# Altium schematic symbol library Power and Battery Management.SchLib: 645 symbols (part 11 of 15)
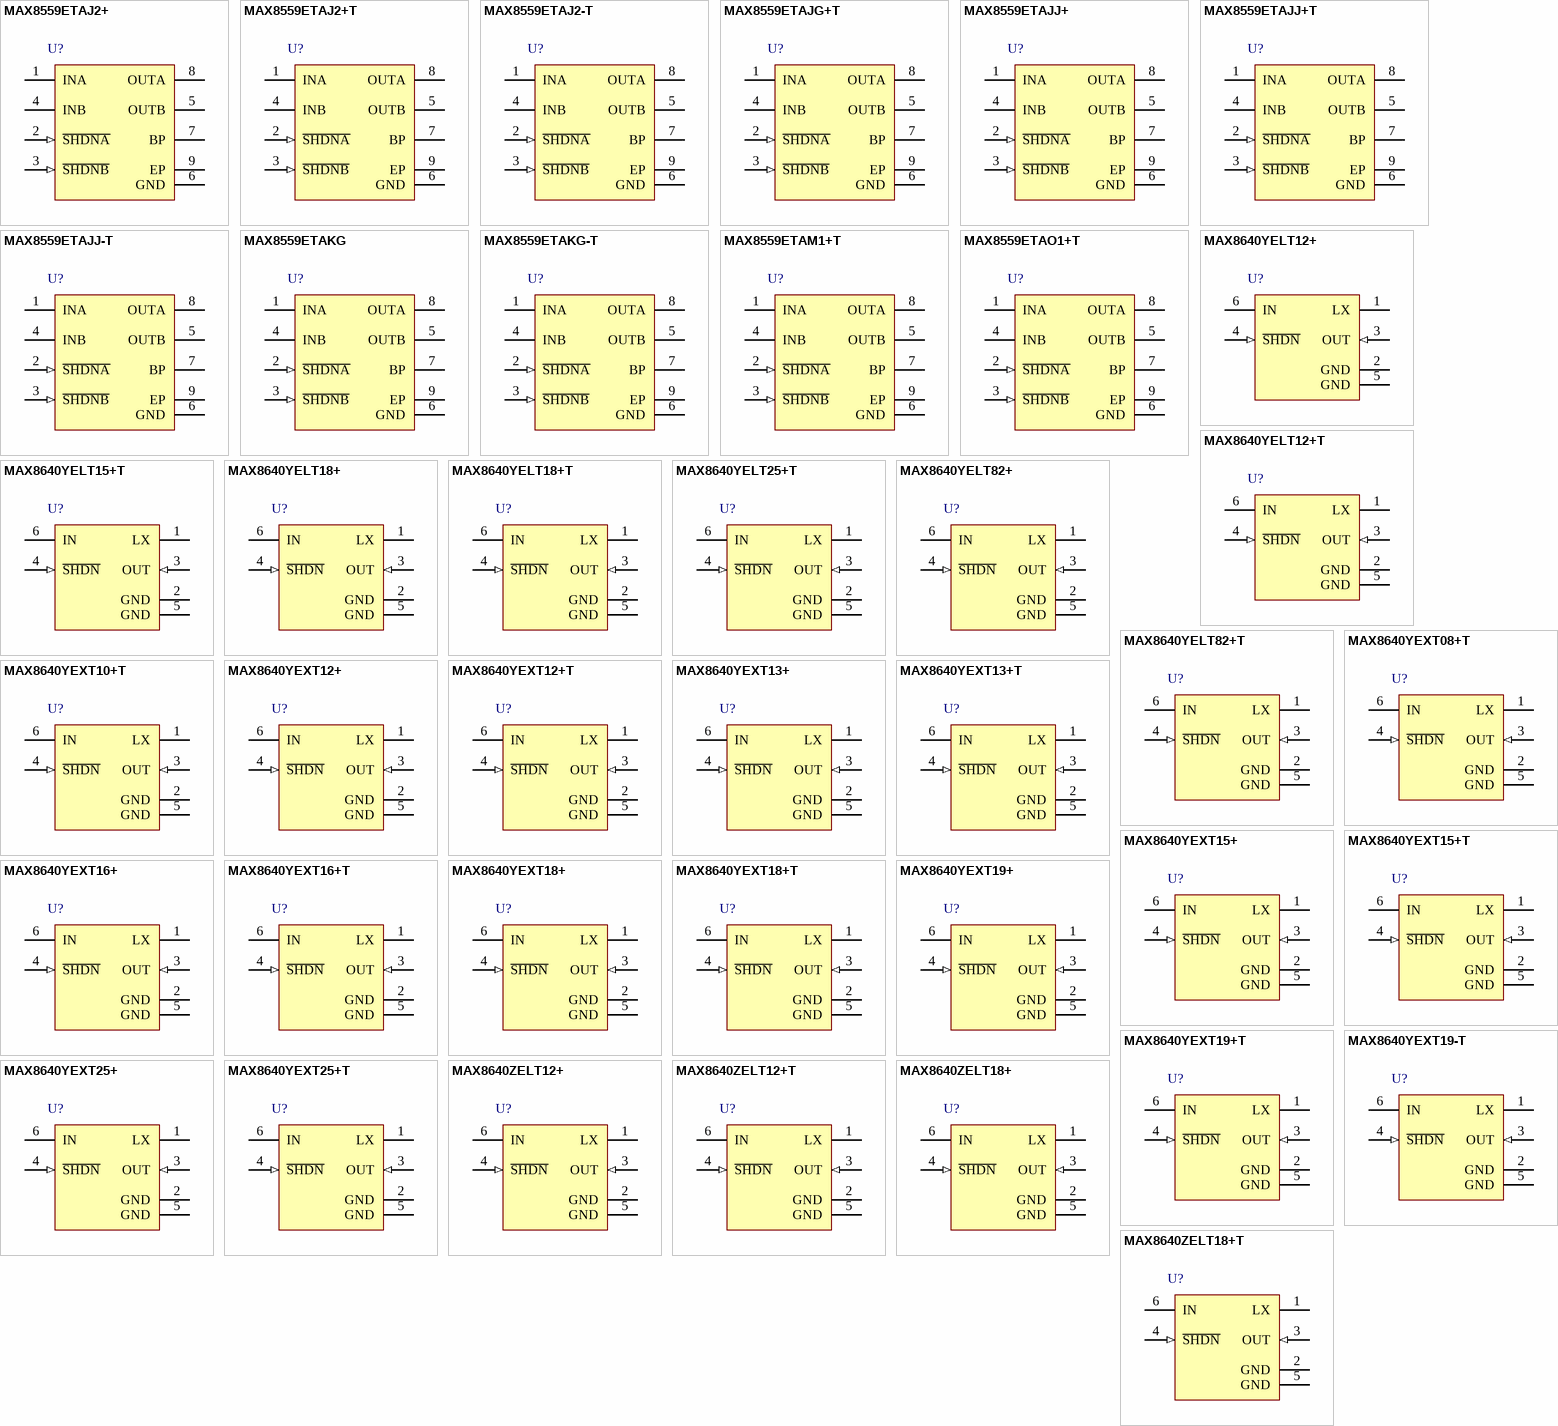
[diagram p29: symbols MAX8559ETAJ2+ to MAX8640ZELT18+T]

## MAX8559ETAJ2+T
designator U?
Dual, 300mA, Low-Noise Linear Regulator with Independent Shutdown, 8-Pin TDFN-EP, -40°C to +85°C, Pb-Free, Tape and Reel; DatasheetVersion: Rev 2, Aug-2005; PackageVersion: revJ, 2009; PackageReference: T833+2; PackageDescription: 8-Pin Plastic Very Very Thin Dual Flatpack No Leads, Exposed Pad, 3 x 3 x 0.8 mm Body, TDFN-EP, Pb-Free; Code_JEDEC: MO-229-WEEC; ComponentLink1Description: Manufacturer URL; ComponentLink1URL: http://www.maxim-ic.com; ComponentLink2Description: Datasheet; ComponentLink2URL: http://datasheets.maxim-ic.com/en/ds/MAX8559.pdf; ComponentLink3Description: Package Specification; ComponentLink3URL: http://pdfserv.maxim-ic.com/package_dwgs/21-0137.PDF
footprint T833+2 (SON, 8-Leads, Body 3x3 mm, Pitch 0.65mm, Thermal Pad 2.35x1.58mm, Maxim Recommended)
pins: 1 INA (power), 2 ~{SHDNA} (in), 3 ~{SHDNB} (in), 4 INB (power), 5 OUTB (power), 6 GND (power), 7 BP, 8 OUTA (power), 9 EP (power)

## MAX8559ETAJ2-T
designator U?
Dual, 300mA, Low-Noise Linear Regulator with Independent Shutdown, 8-Pin TDFN-EP, -40°C to +85°C, Tape and Reel; DatasheetVersion: Rev 2, Aug-2005; PackageVersion: revJ, 2009; PackageReference: T833-2; PackageDescription: 8-Pin Plastic Very Very Thin Dual Flatpack No Leads, Exposed Pad, 3 x 3 x 0.8 mm Body, TDFN-EP; Code_JEDEC: MO-229-WEEC; ComponentLink1Description: Manufacturer URL; ComponentLink1URL: http://www.maxim-ic.com; ComponentLink2Description: Datasheet; ComponentLink2URL: http://datasheets.maxim-ic.com/en/ds/MAX8559.pdf; ComponentLink3Description: Package Specification; ComponentLink3URL: http://pdfserv.maxim-ic.com/package_dwgs/21-0137.PDF
footprint T833-2 (SON, 8-Leads, Body 3x3 mm, Pitch 0.65mm, Thermal Pad 2.35x1.58mm, Maxim Recommended)
pins: 1 INA (power), 2 ~{SHDNA} (in), 3 ~{SHDNB} (in), 4 INB (power), 5 OUTB (power), 6 GND (power), 7 BP, 8 OUTA (power), 9 EP (power)

## MAX8559ETAJG+T
designator U?
Dual, 300mA, Low-Noise Linear Regulator with Independent Shutdown, 8-Pin TDFN-EP, -40°C to +85°C, Pb-Free, Tape and Reel; DatasheetVersion: Rev 2, Aug-2005; PackageVersion: revJ, 2009; PackageReference: T833+2; PackageDescription: 8-Pin Plastic Very Very Thin Dual Flatpack No Leads, Exposed Pad, 3 x 3 x 0.8 mm Body, TDFN-EP, Pb-Free; Code_JEDEC: MO-229-WEEC; ComponentLink1Description: Manufacturer URL; ComponentLink1URL: http://www.maxim-ic.com; ComponentLink2Description: Datasheet; ComponentLink2URL: http://datasheets.maxim-ic.com/en/ds/MAX8559.pdf; ComponentLink3Description: Package Specification; ComponentLink3URL: http://pdfserv.maxim-ic.com/package_dwgs/21-0137.PDF
footprint T833+2 (SON, 8-Leads, Body 3x3 mm, Pitch 0.65mm, Thermal Pad 2.35x1.58mm, Maxim Recommended)
pins: 1 INA (power), 2 ~{SHDNA} (in), 3 ~{SHDNB} (in), 4 INB (power), 5 OUTB (power), 6 GND (power), 7 BP, 8 OUTA (power), 9 EP (power)

## MAX8559ETAJJ+
designator U?
Dual, 300mA, Low-Noise Linear Regulator with Independent Shutdown, 8-Pin TDFN-EP, -40°C to +85°C, Pb-Free; DatasheetVersion: Rev 2, Aug-2005; PackageVersion: revJ, 2009; PackageReference: T833+2; PackageDescription: 8-Pin Plastic Very Very Thin Dual Flatpack No Leads, Exposed Pad, 3 x 3 x 0.8 mm Body, TDFN-EP, Pb-Free; Code_JEDEC: MO-229-WEEC; ComponentLink1Description: Manufacturer URL; ComponentLink1URL: http://www.maxim-ic.com; ComponentLink2Description: Datasheet; ComponentLink2URL: http://datasheets.maxim-ic.com/en/ds/MAX8559.pdf; ComponentLink3Description: Package Specification; ComponentLink3URL: http://pdfserv.maxim-ic.com/package_dwgs/21-0137.PDF
footprint T833+2 (SON, 8-Leads, Body 3x3 mm, Pitch 0.65mm, Thermal Pad 2.35x1.58mm, Maxim Recommended)
pins: 1 INA (power), 2 ~{SHDNA} (in), 3 ~{SHDNB} (in), 4 INB (power), 5 OUTB (power), 6 GND (power), 7 BP, 8 OUTA (power), 9 EP (power)

## MAX8559ETAJJ+T
designator U?
Dual, 300mA, Low-Noise Linear Regulator with Independent Shutdown, 8-Pin TDFN-EP, -40°C to +85°C, Pb-Free, Tape and Reel; DatasheetVersion: Rev 2, Aug-2005; PackageVersion: revJ, 2009; PackageReference: T833+2; PackageDescription: 8-Pin Plastic Very Very Thin Dual Flatpack No Leads, Exposed Pad, 3 x 3 x 0.8 mm Body, TDFN-EP, Pb-Free; Code_JEDEC: MO-229-WEEC; ComponentLink1Description: Manufacturer URL; ComponentLink1URL: http://www.maxim-ic.com; ComponentLink2Description: Datasheet; ComponentLink2URL: http://datasheets.maxim-ic.com/en/ds/MAX8559.pdf; ComponentLink3Description: Package Specification; ComponentLink3URL: http://pdfserv.maxim-ic.com/package_dwgs/21-0137.PDF
footprint T833+2 (SON, 8-Leads, Body 3x3 mm, Pitch 0.65mm, Thermal Pad 2.35x1.58mm, Maxim Recommended)
pins: 1 INA (power), 2 ~{SHDNA} (in), 3 ~{SHDNB} (in), 4 INB (power), 5 OUTB (power), 6 GND (power), 7 BP, 8 OUTA (power), 9 EP (power)

## MAX8559ETAJJ-T
designator U?
Dual, 300mA, Low-Noise Linear Regulator with Independent Shutdown, 8-Pin TDFN-EP, -40°C to +85°C, Tape and Reel; DatasheetVersion: Rev 2, Aug-2005; PackageVersion: revJ, 2009; PackageReference: T833-2; PackageDescription: 8-Pin Plastic Very Very Thin Dual Flatpack No Leads, Exposed Pad, 3 x 3 x 0.8 mm Body, TDFN-EP; Code_JEDEC: MO-229-WEEC; ComponentLink1Description: Manufacturer URL; ComponentLink1URL: http://www.maxim-ic.com; ComponentLink2Description: Datasheet; ComponentLink2URL: http://datasheets.maxim-ic.com/en/ds/MAX8559.pdf; ComponentLink3Description: Package Specification; ComponentLink3URL: http://pdfserv.maxim-ic.com/package_dwgs/21-0137.PDF
footprint T833-2 (SON, 8-Leads, Body 3x3 mm, Pitch 0.65mm, Thermal Pad 2.35x1.58mm, Maxim Recommended)
pins: 1 INA (power), 2 ~{SHDNA} (in), 3 ~{SHDNB} (in), 4 INB (power), 5 OUTB (power), 6 GND (power), 7 BP, 8 OUTA (power), 9 EP (power)

## MAX8559ETAKG
designator U?
Dual, 300mA, Low-Noise Linear Regulator with Independent Shutdown, 8-Pin TDFN-EP, -40°C to +85°C; DatasheetVersion: Rev 2, Aug-2005; PackageVersion: revJ, 2009; PackageReference: T833-2; PackageDescription: 8-Pin Plastic Very Very Thin Dual Flatpack No Leads, Exposed Pad, 3 x 3 x 0.8 mm Body, TDFN-EP; Code_JEDEC: MO-229-WEEC; ComponentLink1Description: Manufacturer URL; ComponentLink1URL: http://www.maxim-ic.com; ComponentLink2Description: Datasheet; ComponentLink2URL: http://datasheets.maxim-ic.com/en/ds/MAX8559.pdf; ComponentLink3Description: Package Specification; ComponentLink3URL: http://pdfserv.maxim-ic.com/package_dwgs/21-0137.PDF
footprint T833-2 (SON, 8-Leads, Body 3x3 mm, Pitch 0.65mm, Thermal Pad 2.35x1.58mm, Maxim Recommended)
pins: 1 INA (power), 2 ~{SHDNA} (in), 3 ~{SHDNB} (in), 4 INB (power), 5 OUTB (power), 6 GND (power), 7 BP, 8 OUTA (power), 9 EP (power)

## MAX8559ETAKG-T
designator U?
Dual, 300mA, Low-Noise Linear Regulator with Independent Shutdown, 8-Pin TDFN-EP, -40°C to +85°C, Tape and Reel; DatasheetVersion: Rev 2, Aug-2005; PackageVersion: revJ, 2009; PackageReference: T833-2; PackageDescription: 8-Pin Plastic Very Very Thin Dual Flatpack No Leads, Exposed Pad, 3 x 3 x 0.8 mm Body, TDFN-EP; Code_JEDEC: MO-229-WEEC; ComponentLink1Description: Manufacturer URL; ComponentLink1URL: http://www.maxim-ic.com; ComponentLink2Description: Datasheet; ComponentLink2URL: http://datasheets.maxim-ic.com/en/ds/MAX8559.pdf; ComponentLink3Description: Package Specification; ComponentLink3URL: http://pdfserv.maxim-ic.com/package_dwgs/21-0137.PDF
footprint T833-2 (SON, 8-Leads, Body 3x3 mm, Pitch 0.65mm, Thermal Pad 2.35x1.58mm, Maxim Recommended)
pins: 1 INA (power), 2 ~{SHDNA} (in), 3 ~{SHDNB} (in), 4 INB (power), 5 OUTB (power), 6 GND (power), 7 BP, 8 OUTA (power), 9 EP (power)

## MAX8559ETAM1+T
designator U?
Dual, 300mA, Low-Noise Linear Regulator with Independent Shutdown, 8-Pin TDFN-EP, -40°C to +85°C, Pb-Free, Tape and Reel; DatasheetVersion: Rev 2, Aug-2005; PackageVersion: revJ, 2009; PackageReference: T833+2; PackageDescription: 8-Pin Plastic Very Very Thin Dual Flatpack No Leads, Exposed Pad, 3 x 3 x 0.8 mm Body, TDFN-EP, Pb-Free; Code_JEDEC: MO-229-WEEC; ComponentLink1Description: Manufacturer URL; ComponentLink1URL: http://www.maxim-ic.com; ComponentLink2Description: Datasheet; ComponentLink2URL: http://datasheets.maxim-ic.com/en/ds/MAX8559.pdf; ComponentLink3Description: Package Specification; ComponentLink3URL: http://pdfserv.maxim-ic.com/package_dwgs/21-0137.PDF
footprint T833+2 (SON, 8-Leads, Body 3x3 mm, Pitch 0.65mm, Thermal Pad 2.35x1.58mm, Maxim Recommended)
pins: 1 INA (power), 2 ~{SHDNA} (in), 3 ~{SHDNB} (in), 4 INB (power), 5 OUTB (power), 6 GND (power), 7 BP, 8 OUTA (power), 9 EP (power)

## MAX8559ETAO1+T
designator U?
Dual, 300mA, Low-Noise Linear Regulator with Independent Shutdown, 8-Pin TDFN-EP, -40°C to +85°C, Pb-Free, Tape and Reel; DatasheetVersion: Rev 2, Aug-2005; PackageVersion: revJ, 2009; PackageReference: T833+2; PackageDescription: 8-Pin Plastic Very Very Thin Dual Flatpack No Leads, Exposed Pad, 3 x 3 x 0.8 mm Body, TDFN-EP, Pb-Free; Code_JEDEC: MO-229-WEEC; ComponentLink1Description: Manufacturer URL; ComponentLink1URL: http://www.maxim-ic.com; ComponentLink2Description: Datasheet; ComponentLink2URL: http://datasheets.maxim-ic.com/en/ds/MAX8559.pdf; ComponentLink3Description: Package Specification; ComponentLink3URL: http://pdfserv.maxim-ic.com/package_dwgs/21-0137.PDF
footprint T833+2 (SON, 8-Leads, Body 3x3 mm, Pitch 0.65mm, Thermal Pad 2.35x1.58mm, Maxim Recommended)
pins: 1 INA (power), 2 ~{SHDNA} (in), 3 ~{SHDNB} (in), 4 INB (power), 5 OUTB (power), 6 GND (power), 7 BP, 8 OUTA (power), 9 EP (power)

## MAX8640YELT12+
designator U?
Tiny 500mA, 4MHz/2MHz Synchronous Step-Down DC-DC Converter, 1.2V output, 2.2uH L1, 6-Pin DFN, -40°C to +85°C, Pb-Free; DatasheetVersion: Rev 4, Feb-2009; PackageVersion: revG, 2012; PackageReference: L611+1; PackageDescription: 6-Pin Micro Dual Flatpack No Lead, 1.5 x 1 x 0.8 mm Body, 0.5 mm Pitch, uDFN; ComponentLink1Description: Manufacturer URL; ComponentLink1URL: http://www.maxim-ic.com; ComponentLink2Description: Datasheet; ComponentLink2URL: http://datasheets.maxim-ic.com/en/ds/MAX8640Y-MAX8640Z.pdf; ComponentLink3Description: Package Specification; ComponentLink3URL: http://pdfserv.maxim-ic.com/package_dwgs/21-0147.PDF
footprint L611+1_N (SON, 6-Leads, Body 1.5x1mm, Pitch 0.5mm, IPC Medium Density)
footprint L611+1_L (SON, 6-Leads, Body 1.5x1mm, Pitch 0.5mm, IPC High Density)
footprint L611+1_M (SON, 6-Leads, Body 1.5x1mm, Pitch 0.5mm, IPC Low Density)
pins: 1 LX, 2 GND (power), 3 OUT (in), 4 ~{SHDN} (in), 5 GND (power), 6 IN (power)

## MAX8640YELT12+T
designator U?
Tiny 500mA, 4MHz/2MHz Synchronous Step-Down DC-DC Converter, 1.2V output, 2.2uH L1, 6-Pin DFN, -40°C to +85°C, Pb-Free, Tape and Reel; DatasheetVersion: Rev 4, Feb-2009; PackageVersion: revG, 2012; PackageReference: L611+1; PackageDescription: 6-Pin Micro Dual Flatpack No Lead, 1.5 x 1 x 0.8 mm Body, 0.5 mm Pitch, uDFN; ComponentLink1Description: Manufacturer URL; ComponentLink1URL: http://www.maxim-ic.com; ComponentLink2Description: Datasheet; ComponentLink2URL: http://datasheets.maxim-ic.com/en/ds/MAX8640Y-MAX8640Z.pdf; ComponentLink3Description: Package Specification; ComponentLink3URL: http://pdfserv.maxim-ic.com/package_dwgs/21-0147.PDF
footprint L611+1_N (SON, 6-Leads, Body 1.5x1mm, Pitch 0.5mm, IPC Medium Density)
footprint L611+1_L (SON, 6-Leads, Body 1.5x1mm, Pitch 0.5mm, IPC High Density)
footprint L611+1_M (SON, 6-Leads, Body 1.5x1mm, Pitch 0.5mm, IPC Low Density)
pins: 1 LX, 2 GND (power), 3 OUT (in), 4 ~{SHDN} (in), 5 GND (power), 6 IN (power)

## MAX8640YELT15+T
designator U?
Tiny 500mA, 4MHz/2MHz Synchronous Step-Down DC-DC Converter, 1.5V output, 2.2uH L1, 6-Pin DFN, -40°C to +85°C, Pb-Free, Tape and Reel; DatasheetVersion: Rev 4, Feb-2009; PackageVersion: revG, 2012; PackageReference: L611+1; PackageDescription: 6-Pin Micro Dual Flatpack No Lead, 1.5 x 1 x 0.8 mm Body, 0.5 mm Pitch, uDFN; ComponentLink1Description: Manufacturer URL; ComponentLink1URL: http://www.maxim-ic.com; ComponentLink2Description: Datasheet; ComponentLink2URL: http://datasheets.maxim-ic.com/en/ds/MAX8640Y-MAX8640Z.pdf; ComponentLink3Description: Package Specification; ComponentLink3URL: http://pdfserv.maxim-ic.com/package_dwgs/21-0147.PDF
footprint L611+1_N (SON, 6-Leads, Body 1.5x1mm, Pitch 0.5mm, IPC Medium Density)
footprint L611+1_L (SON, 6-Leads, Body 1.5x1mm, Pitch 0.5mm, IPC High Density)
footprint L611+1_M (SON, 6-Leads, Body 1.5x1mm, Pitch 0.5mm, IPC Low Density)
pins: 1 LX, 2 GND (power), 3 OUT (in), 4 ~{SHDN} (in), 5 GND (power), 6 IN (power)

## MAX8640YELT18+
designator U?
Tiny 500mA, 4MHz/2MHz Synchronous Step-Down DC-DC Converter, 1.8V output, 2.2uH L1, 6-Pin DFN, -40°C to +85°C, Pb-Free; DatasheetVersion: Rev 4, Feb-2009; PackageVersion: revG, 2012; PackageReference: L611+1; PackageDescription: 6-Pin Micro Dual Flatpack No Lead, 1.5 x 1 x 0.8 mm Body, 0.5 mm Pitch, uDFN; ComponentLink1Description: Manufacturer URL; ComponentLink1URL: http://www.maxim-ic.com; ComponentLink2Description: Datasheet; ComponentLink2URL: http://datasheets.maxim-ic.com/en/ds/MAX8640Y-MAX8640Z.pdf; ComponentLink3Description: Package Specification; ComponentLink3URL: http://pdfserv.maxim-ic.com/package_dwgs/21-0147.PDF
footprint L611+1_N (SON, 6-Leads, Body 1.5x1mm, Pitch 0.5mm, IPC Medium Density)
footprint L611+1_L (SON, 6-Leads, Body 1.5x1mm, Pitch 0.5mm, IPC High Density)
footprint L611+1_M (SON, 6-Leads, Body 1.5x1mm, Pitch 0.5mm, IPC Low Density)
pins: 1 LX, 2 GND (power), 3 OUT (in), 4 ~{SHDN} (in), 5 GND (power), 6 IN (power)

## MAX8640YELT18+T
designator U?
Tiny 500mA, 4MHz/2MHz Synchronous Step-Down DC-DC Converter, 1.8V output, 2.2uH L1, 6-Pin DFN, -40°C to +85°C, Pb-Free, Tape and Reel; DatasheetVersion: Rev 4, Feb-2009; PackageVersion: revG, 2012; PackageReference: L611+1; PackageDescription: 6-Pin Micro Dual Flatpack No Lead, 1.5 x 1 x 0.8 mm Body, 0.5 mm Pitch, uDFN; ComponentLink1Description: Manufacturer URL; ComponentLink1URL: http://www.maxim-ic.com; ComponentLink2Description: Datasheet; ComponentLink2URL: http://datasheets.maxim-ic.com/en/ds/MAX8640Y-MAX8640Z.pdf; ComponentLink3Description: Package Specification; ComponentLink3URL: http://pdfserv.maxim-ic.com/package_dwgs/21-0147.PDF
footprint L611+1_N (SON, 6-Leads, Body 1.5x1mm, Pitch 0.5mm, IPC Medium Density)
footprint L611+1_L (SON, 6-Leads, Body 1.5x1mm, Pitch 0.5mm, IPC High Density)
footprint L611+1_M (SON, 6-Leads, Body 1.5x1mm, Pitch 0.5mm, IPC Low Density)
pins: 1 LX, 2 GND (power), 3 OUT (in), 4 ~{SHDN} (in), 5 GND (power), 6 IN (power)

## MAX8640YELT25+T
designator U?
Tiny 500mA, 4MHz/2MHz Synchronous Step-Down DC-DC Converter, 2.5V output, 2.2uH L1, 6-Pin DFN, -40°C to +85°C, Pb-Free, Tape and Reel; DatasheetVersion: Rev 4, Feb-2009; PackageVersion: revG, 2012; PackageReference: L611+1; PackageDescription: 6-Pin Micro Dual Flatpack No Lead, 1.5 x 1 x 0.8 mm Body, 0.5 mm Pitch, uDFN; ComponentLink1Description: Manufacturer URL; ComponentLink1URL: http://www.maxim-ic.com; ComponentLink2Description: Datasheet; ComponentLink2URL: http://datasheets.maxim-ic.com/en/ds/MAX8640Y-MAX8640Z.pdf; ComponentLink3Description: Package Specification; ComponentLink3URL: http://pdfserv.maxim-ic.com/package_dwgs/21-0147.PDF
footprint L611+1_N (SON, 6-Leads, Body 1.5x1mm, Pitch 0.5mm, IPC Medium Density)
footprint L611+1_L (SON, 6-Leads, Body 1.5x1mm, Pitch 0.5mm, IPC High Density)
footprint L611+1_M (SON, 6-Leads, Body 1.5x1mm, Pitch 0.5mm, IPC Low Density)
pins: 1 LX, 2 GND (power), 3 OUT (in), 4 ~{SHDN} (in), 5 GND (power), 6 IN (power)

## MAX8640YELT82+
designator U?
Tiny 500mA, 4MHz/2MHz Synchronous Step-Down DC-DC Converter, 2.85V output, 2.2uH L1, 6-Pin DFN, -40°C to +85°C, Pb-Free; DatasheetVersion: Rev 4, Feb-2009; PackageVersion: revG, 2012; PackageReference: L611+1; PackageDescription: 6-Pin Micro Dual Flatpack No Lead, 1.5 x 1 x 0.8 mm Body, 0.5 mm Pitch, uDFN; ComponentLink1Description: Manufacturer URL; ComponentLink1URL: http://www.maxim-ic.com; ComponentLink2Description: Datasheet; ComponentLink2URL: http://datasheets.maxim-ic.com/en/ds/MAX8640Y-MAX8640Z.pdf; ComponentLink3Description: Package Specification; ComponentLink3URL: http://pdfserv.maxim-ic.com/package_dwgs/21-0147.PDF
footprint L611+1_N (SON, 6-Leads, Body 1.5x1mm, Pitch 0.5mm, IPC Medium Density)
footprint L611+1_L (SON, 6-Leads, Body 1.5x1mm, Pitch 0.5mm, IPC High Density)
footprint L611+1_M (SON, 6-Leads, Body 1.5x1mm, Pitch 0.5mm, IPC Low Density)
pins: 1 LX, 2 GND (power), 3 OUT (in), 4 ~{SHDN} (in), 5 GND (power), 6 IN (power)

## MAX8640YELT82+T
designator U?
Tiny 500mA, 4MHz/2MHz Synchronous Step-Down DC-DC Converter, 2.85V output, 2.2uH L1, 6-Pin DFN, -40°C to +85°C, Pb-Free, Tape and Reel; DatasheetVersion: Rev 4, Feb-2009; PackageVersion: revG, 2012; PackageReference: L611+1; PackageDescription: 6-Pin Micro Dual Flatpack No Lead, 1.5 x 1 x 0.8 mm Body, 0.5 mm Pitch, uDFN; ComponentLink1Description: Manufacturer URL; ComponentLink1URL: http://www.maxim-ic.com; ComponentLink2Description: Datasheet; ComponentLink2URL: http://datasheets.maxim-ic.com/en/ds/MAX8640Y-MAX8640Z.pdf; ComponentLink3Description: Package Specification; ComponentLink3URL: http://pdfserv.maxim-ic.com/package_dwgs/21-0147.PDF
footprint L611+1_N (SON, 6-Leads, Body 1.5x1mm, Pitch 0.5mm, IPC Medium Density)
footprint L611+1_L (SON, 6-Leads, Body 1.5x1mm, Pitch 0.5mm, IPC High Density)
footprint L611+1_M (SON, 6-Leads, Body 1.5x1mm, Pitch 0.5mm, IPC Low Density)
pins: 1 LX, 2 GND (power), 3 OUT (in), 4 ~{SHDN} (in), 5 GND (power), 6 IN (power)

## MAX8640YEXT08+T
designator U?
Tiny 500mA, 4MHz/2MHz Synchronous Step-Down DC-DC Converter, 0.8V output, 2.2uH L1, 6-Pin SC70, -40°C to +85°C, Pb-Free, Tape and Reel; DatasheetVersion: Rev 4, Feb-2009; PackageVersion: revH, 2010; PackageReference: X6SN+1; PackageDescription: 6-Pin SL70 Package 2 x 1.3 mm Body ,0.65 mm Pitch, Pb-Free; Code_JEDEC: MO-203; ComponentLink1Description: Manufacturer URL; ComponentLink1URL: http://www.maxim-ic.com; ComponentLink2Description: Datasheet; ComponentLink2URL: http://datasheets.maxim-ic.com/en/ds/MAX8640Y-MAX8640Z.pdf; ComponentLink3Description: Package Specification; ComponentLink3URL: http://pdfserv.maxim-ic.com/package_dwgs/21-0077.PDF
footprint X6SN+1_N (SOT23, 6-Leads, Body 2x1.3mm, Pitch 0.65mm, Lead Span 2.2mm, IPC Medium Density)
footprint X6SN+1_L (SOT23, 6-Leads, Body 2x1.3mm, Pitch 0.65mm, Lead Span 2.2mm, IPC High Density)
footprint X6SN+1_M (SOT23, 6-Leads, Body 2x1.3mm, Pitch 0.65mm, Lead Span 2.2mm, IPC Low Density)
pins: 1 LX, 2 GND (power), 3 OUT (in), 4 ~{SHDN} (in), 5 GND (power), 6 IN (power)

## MAX8640YEXT10+T
designator U?
Tiny 500mA, 4MHz/2MHz Synchronous Step-Down DC-DC Converter, 1V output, 2.2uH L1, 6-Pin SC70, -40°C to +85°C, Pb-Free, Tape and Reel; DatasheetVersion: Rev 4, Feb-2009; PackageVersion: revH, 2010; PackageReference: X6SN+1; PackageDescription: 6-Pin SL70 Package 2 x 1.3 mm Body ,0.65 mm Pitch, Pb-Free; Code_JEDEC: MO-203; ComponentLink1Description: Manufacturer URL; ComponentLink1URL: http://www.maxim-ic.com; ComponentLink2Description: Datasheet; ComponentLink2URL: http://datasheets.maxim-ic.com/en/ds/MAX8640Y-MAX8640Z.pdf; ComponentLink3Description: Package Specification; ComponentLink3URL: http://pdfserv.maxim-ic.com/package_dwgs/21-0077.PDF
footprint X6SN+1_N (SOT23, 6-Leads, Body 2x1.3mm, Pitch 0.65mm, Lead Span 2.2mm, IPC Medium Density)
footprint X6SN+1_L (SOT23, 6-Leads, Body 2x1.3mm, Pitch 0.65mm, Lead Span 2.2mm, IPC High Density)
footprint X6SN+1_M (SOT23, 6-Leads, Body 2x1.3mm, Pitch 0.65mm, Lead Span 2.2mm, IPC Low Density)
pins: 1 LX, 2 GND (power), 3 OUT (in), 4 ~{SHDN} (in), 5 GND (power), 6 IN (power)

## MAX8640YEXT12+
designator U?
Tiny 500mA, 4MHz/2MHz Synchronous Step-Down DC-DC Converter, 1.2V output, 2.2uH L1, 6-Pin SC70, -40°C to +85°C, Pb-Free; DatasheetVersion: Rev 4, Feb-2009; PackageVersion: revH, 2010; PackageReference: X6SN+1; PackageDescription: 6-Pin SL70 Package 2 x 1.3 mm Body ,0.65 mm Pitch, Pb-Free; Code_JEDEC: MO-203; ComponentLink1Description: Manufacturer URL; ComponentLink1URL: http://www.maxim-ic.com; ComponentLink2Description: Datasheet; ComponentLink2URL: http://datasheets.maxim-ic.com/en/ds/MAX8640Y-MAX8640Z.pdf; ComponentLink3Description: Package Specification; ComponentLink3URL: http://pdfserv.maxim-ic.com/package_dwgs/21-0077.PDF
footprint X6SN+1_N (SOT23, 6-Leads, Body 2x1.3mm, Pitch 0.65mm, Lead Span 2.2mm, IPC Medium Density)
footprint X6SN+1_L (SOT23, 6-Leads, Body 2x1.3mm, Pitch 0.65mm, Lead Span 2.2mm, IPC High Density)
footprint X6SN+1_M (SOT23, 6-Leads, Body 2x1.3mm, Pitch 0.65mm, Lead Span 2.2mm, IPC Low Density)
pins: 1 LX, 2 GND (power), 3 OUT (in), 4 ~{SHDN} (in), 5 GND (power), 6 IN (power)

## MAX8640YEXT12+T
designator U?
Tiny 500mA, 4MHz/2MHz Synchronous Step-Down DC-DC Converter, 1.2V output, 2.2uH L1, 6-Pin SC70, -40°C to +85°C, Pb-Free, Tape and Reel; DatasheetVersion: Rev 4, Feb-2009; PackageVersion: revH, 2010; PackageReference: X6SN+1; PackageDescription: 6-Pin SL70 Package 2 x 1.3 mm Body ,0.65 mm Pitch, Pb-Free; Code_JEDEC: MO-203; ComponentLink1Description: Manufacturer URL; ComponentLink1URL: http://www.maxim-ic.com; ComponentLink2Description: Datasheet; ComponentLink2URL: http://datasheets.maxim-ic.com/en/ds/MAX8640Y-MAX8640Z.pdf; ComponentLink3Description: Package Specification; ComponentLink3URL: http://pdfserv.maxim-ic.com/package_dwgs/21-0077.PDF
footprint X6SN+1_N (SOT23, 6-Leads, Body 2x1.3mm, Pitch 0.65mm, Lead Span 2.2mm, IPC Medium Density)
footprint X6SN+1_L (SOT23, 6-Leads, Body 2x1.3mm, Pitch 0.65mm, Lead Span 2.2mm, IPC High Density)
footprint X6SN+1_M (SOT23, 6-Leads, Body 2x1.3mm, Pitch 0.65mm, Lead Span 2.2mm, IPC Low Density)
pins: 1 LX, 2 GND (power), 3 OUT (in), 4 ~{SHDN} (in), 5 GND (power), 6 IN (power)

## MAX8640YEXT13+
designator U?
Tiny 500mA, 4MHz/2MHz Synchronous Step-Down DC-DC Converter, 1.3V output, 2.2uH L1, 6-Pin SC70, -40°C to +85°C, Pb-Free; DatasheetVersion: Rev 4, Feb-2009; PackageVersion: revH, 2010; PackageReference: X6SN+1; PackageDescription: 6-Pin SL70 Package 2 x 1.3 mm Body ,0.65 mm Pitch, Pb-Free; Code_JEDEC: MO-203; ComponentLink1Description: Manufacturer URL; ComponentLink1URL: http://www.maxim-ic.com; ComponentLink2Description: Datasheet; ComponentLink2URL: http://datasheets.maxim-ic.com/en/ds/MAX8640Y-MAX8640Z.pdf; ComponentLink3Description: Package Specification; ComponentLink3URL: http://pdfserv.maxim-ic.com/package_dwgs/21-0077.PDF
footprint X6SN+1_N (SOT23, 6-Leads, Body 2x1.3mm, Pitch 0.65mm, Lead Span 2.2mm, IPC Medium Density)
footprint X6SN+1_L (SOT23, 6-Leads, Body 2x1.3mm, Pitch 0.65mm, Lead Span 2.2mm, IPC High Density)
footprint X6SN+1_M (SOT23, 6-Leads, Body 2x1.3mm, Pitch 0.65mm, Lead Span 2.2mm, IPC Low Density)
pins: 1 LX, 2 GND (power), 3 OUT (in), 4 ~{SHDN} (in), 5 GND (power), 6 IN (power)

## MAX8640YEXT13+T
designator U?
Tiny 500mA, 4MHz/2MHz Synchronous Step-Down DC-DC Converter, 1.3V output, 2.2uH L1, 6-Pin SC70, -40°C to +85°C, Pb-Free, Tape and Reel; DatasheetVersion: Rev 4, Feb-2009; PackageVersion: revH, 2010; PackageReference: X6SN+1; PackageDescription: 6-Pin SL70 Package 2 x 1.3 mm Body ,0.65 mm Pitch, Pb-Free; Code_JEDEC: MO-203; ComponentLink1Description: Manufacturer URL; ComponentLink1URL: http://www.maxim-ic.com; ComponentLink2Description: Datasheet; ComponentLink2URL: http://datasheets.maxim-ic.com/en/ds/MAX8640Y-MAX8640Z.pdf; ComponentLink3Description: Package Specification; ComponentLink3URL: http://pdfserv.maxim-ic.com/package_dwgs/21-0077.PDF
footprint X6SN+1_N (SOT23, 6-Leads, Body 2x1.3mm, Pitch 0.65mm, Lead Span 2.2mm, IPC Medium Density)
footprint X6SN+1_L (SOT23, 6-Leads, Body 2x1.3mm, Pitch 0.65mm, Lead Span 2.2mm, IPC High Density)
footprint X6SN+1_M (SOT23, 6-Leads, Body 2x1.3mm, Pitch 0.65mm, Lead Span 2.2mm, IPC Low Density)
pins: 1 LX, 2 GND (power), 3 OUT (in), 4 ~{SHDN} (in), 5 GND (power), 6 IN (power)

## MAX8640YEXT15+
designator U?
Tiny 500mA, 4MHz/2MHz Synchronous Step-Down DC-DC Converter, 1.5V output, 2.2uH L1, 6-Pin SC70, -40°C to +85°C, Pb-Free; DatasheetVersion: Rev 4, Feb-2009; PackageVersion: revH, 2010; PackageReference: X6SN+1; PackageDescription: 6-Pin SL70 Package 2 x 1.3 mm Body ,0.65 mm Pitch, Pb-Free; Code_JEDEC: MO-203; ComponentLink1Description: Manufacturer URL; ComponentLink1URL: http://www.maxim-ic.com; ComponentLink2Description: Datasheet; ComponentLink2URL: http://datasheets.maxim-ic.com/en/ds/MAX8640Y-MAX8640Z.pdf; ComponentLink3Description: Package Specification; ComponentLink3URL: http://pdfserv.maxim-ic.com/package_dwgs/21-0077.PDF
footprint X6SN+1_N (SOT23, 6-Leads, Body 2x1.3mm, Pitch 0.65mm, Lead Span 2.2mm, IPC Medium Density)
footprint X6SN+1_L (SOT23, 6-Leads, Body 2x1.3mm, Pitch 0.65mm, Lead Span 2.2mm, IPC High Density)
footprint X6SN+1_M (SOT23, 6-Leads, Body 2x1.3mm, Pitch 0.65mm, Lead Span 2.2mm, IPC Low Density)
pins: 1 LX, 2 GND (power), 3 OUT (in), 4 ~{SHDN} (in), 5 GND (power), 6 IN (power)

## MAX8640YEXT15+T
designator U?
Tiny 500mA, 4MHz/2MHz Synchronous Step-Down DC-DC Converter, 1.5V output, 2.2uH L1, 6-Pin SC70, -40°C to +85°C, Pb-Free, Tape and Reel; DatasheetVersion: Rev 4, Feb-2009; PackageVersion: revH, 2010; PackageReference: X6SN+1; PackageDescription: 6-Pin SL70 Package 2 x 1.3 mm Body ,0.65 mm Pitch, Pb-Free; Code_JEDEC: MO-203; ComponentLink1Description: Manufacturer URL; ComponentLink1URL: http://www.maxim-ic.com; ComponentLink2Description: Datasheet; ComponentLink2URL: http://datasheets.maxim-ic.com/en/ds/MAX8640Y-MAX8640Z.pdf; ComponentLink3Description: Package Specification; ComponentLink3URL: http://pdfserv.maxim-ic.com/package_dwgs/21-0077.PDF
footprint X6SN+1_N (SOT23, 6-Leads, Body 2x1.3mm, Pitch 0.65mm, Lead Span 2.2mm, IPC Medium Density)
footprint X6SN+1_L (SOT23, 6-Leads, Body 2x1.3mm, Pitch 0.65mm, Lead Span 2.2mm, IPC High Density)
footprint X6SN+1_M (SOT23, 6-Leads, Body 2x1.3mm, Pitch 0.65mm, Lead Span 2.2mm, IPC Low Density)
pins: 1 LX, 2 GND (power), 3 OUT (in), 4 ~{SHDN} (in), 5 GND (power), 6 IN (power)

## MAX8640YEXT16+
designator U?
Tiny 500mA, 4MHz/2MHz Synchronous Step-Down DC-DC Converter, 1.6V output, 2.2uH L1, 6-Pin SC70, -40°C to +85°C, Pb-Free; DatasheetVersion: Rev 4, Feb-2009; PackageVersion: revH, 2010; PackageReference: X6SN+1; PackageDescription: 6-Pin SL70 Package 2 x 1.3 mm Body ,0.65 mm Pitch, Pb-Free; Code_JEDEC: MO-203; ComponentLink1Description: Manufacturer URL; ComponentLink1URL: http://www.maxim-ic.com; ComponentLink2Description: Datasheet; ComponentLink2URL: http://datasheets.maxim-ic.com/en/ds/MAX8640Y-MAX8640Z.pdf; ComponentLink3Description: Package Specification; ComponentLink3URL: http://pdfserv.maxim-ic.com/package_dwgs/21-0077.PDF
footprint X6SN+1_N (SOT23, 6-Leads, Body 2x1.3mm, Pitch 0.65mm, Lead Span 2.2mm, IPC Medium Density)
footprint X6SN+1_L (SOT23, 6-Leads, Body 2x1.3mm, Pitch 0.65mm, Lead Span 2.2mm, IPC High Density)
footprint X6SN+1_M (SOT23, 6-Leads, Body 2x1.3mm, Pitch 0.65mm, Lead Span 2.2mm, IPC Low Density)
pins: 1 LX, 2 GND (power), 3 OUT (in), 4 ~{SHDN} (in), 5 GND (power), 6 IN (power)

## MAX8640YEXT16+T
designator U?
Tiny 500mA, 4MHz/2MHz Synchronous Step-Down DC-DC Converter, 1.6V output, 2.2uH L1, 6-Pin SC70, -40°C to +85°C, Pb-Free, Tape and Reel; DatasheetVersion: Rev 4, Feb-2009; PackageVersion: revH, 2010; PackageReference: X6SN+1; PackageDescription: 6-Pin SL70 Package 2 x 1.3 mm Body ,0.65 mm Pitch, Pb-Free; Code_JEDEC: MO-203; ComponentLink1Description: Manufacturer URL; ComponentLink1URL: http://www.maxim-ic.com; ComponentLink2Description: Datasheet; ComponentLink2URL: http://datasheets.maxim-ic.com/en/ds/MAX8640Y-MAX8640Z.pdf; ComponentLink3Description: Package Specification; ComponentLink3URL: http://pdfserv.maxim-ic.com/package_dwgs/21-0077.PDF
footprint X6SN+1_N (SOT23, 6-Leads, Body 2x1.3mm, Pitch 0.65mm, Lead Span 2.2mm, IPC Medium Density)
footprint X6SN+1_L (SOT23, 6-Leads, Body 2x1.3mm, Pitch 0.65mm, Lead Span 2.2mm, IPC High Density)
footprint X6SN+1_M (SOT23, 6-Leads, Body 2x1.3mm, Pitch 0.65mm, Lead Span 2.2mm, IPC Low Density)
pins: 1 LX, 2 GND (power), 3 OUT (in), 4 ~{SHDN} (in), 5 GND (power), 6 IN (power)

## MAX8640YEXT18+
designator U?
Tiny 500mA, 4MHz/2MHz Synchronous Step-Down DC-DC Converter, 1.8V output, 2.2uH L1, 6-Pin SC70, -40°C to +85°C, Pb-Free; DatasheetVersion: Rev 4, Feb-2009; PackageVersion: revH, 2010; PackageReference: X6SN+1; PackageDescription: 6-Pin SL70 Package 2 x 1.3 mm Body ,0.65 mm Pitch, Pb-Free; Code_JEDEC: MO-203; ComponentLink1Description: Manufacturer URL; ComponentLink1URL: http://www.maxim-ic.com; ComponentLink2Description: Datasheet; ComponentLink2URL: http://datasheets.maxim-ic.com/en/ds/MAX8640Y-MAX8640Z.pdf; ComponentLink3Description: Package Specification; ComponentLink3URL: http://pdfserv.maxim-ic.com/package_dwgs/21-0077.PDF
footprint X6SN+1_N (SOT23, 6-Leads, Body 2x1.3mm, Pitch 0.65mm, Lead Span 2.2mm, IPC Medium Density)
footprint X6SN+1_L (SOT23, 6-Leads, Body 2x1.3mm, Pitch 0.65mm, Lead Span 2.2mm, IPC High Density)
footprint X6SN+1_M (SOT23, 6-Leads, Body 2x1.3mm, Pitch 0.65mm, Lead Span 2.2mm, IPC Low Density)
pins: 1 LX, 2 GND (power), 3 OUT (in), 4 ~{SHDN} (in), 5 GND (power), 6 IN (power)

## MAX8640YEXT18+T
designator U?
Tiny 500mA, 4MHz/2MHz Synchronous Step-Down DC-DC Converter, 1.8V output, 2.2uH L1, 6-Pin SC70, -40°C to +85°C, Pb-Free, Tape and Reel; DatasheetVersion: Rev 4, Feb-2009; PackageVersion: revH, 2010; PackageReference: X6SN+1; PackageDescription: 6-Pin SL70 Package 2 x 1.3 mm Body ,0.65 mm Pitch, Pb-Free; Code_JEDEC: MO-203; ComponentLink1Description: Manufacturer URL; ComponentLink1URL: http://www.maxim-ic.com; ComponentLink2Description: Datasheet; ComponentLink2URL: http://datasheets.maxim-ic.com/en/ds/MAX8640Y-MAX8640Z.pdf; ComponentLink3Description: Package Specification; ComponentLink3URL: http://pdfserv.maxim-ic.com/package_dwgs/21-0077.PDF
footprint X6SN+1_N (SOT23, 6-Leads, Body 2x1.3mm, Pitch 0.65mm, Lead Span 2.2mm, IPC Medium Density)
footprint X6SN+1_L (SOT23, 6-Leads, Body 2x1.3mm, Pitch 0.65mm, Lead Span 2.2mm, IPC High Density)
footprint X6SN+1_M (SOT23, 6-Leads, Body 2x1.3mm, Pitch 0.65mm, Lead Span 2.2mm, IPC Low Density)
pins: 1 LX, 2 GND (power), 3 OUT (in), 4 ~{SHDN} (in), 5 GND (power), 6 IN (power)

## MAX8640YEXT19+
designator U?
Tiny 500mA, 4MHz/2MHz Synchronous Step-Down DC-DC Converter, 1.9V output, 2.2uH L1, 6-Pin SC70, -40°C to +85°C, Pb-Free; DatasheetVersion: Rev 4, Feb-2009; PackageVersion: revH, 2010; PackageReference: X6SN+1; PackageDescription: 6-Pin SL70 Package 2 x 1.3 mm Body ,0.65 mm Pitch, Pb-Free; Code_JEDEC: MO-203; ComponentLink1Description: Manufacturer URL; ComponentLink1URL: http://www.maxim-ic.com; ComponentLink2Description: Datasheet; ComponentLink2URL: http://datasheets.maxim-ic.com/en/ds/MAX8640Y-MAX8640Z.pdf; ComponentLink3Description: Package Specification; ComponentLink3URL: http://pdfserv.maxim-ic.com/package_dwgs/21-0077.PDF
footprint X6SN+1_N (SOT23, 6-Leads, Body 2x1.3mm, Pitch 0.65mm, Lead Span 2.2mm, IPC Medium Density)
footprint X6SN+1_L (SOT23, 6-Leads, Body 2x1.3mm, Pitch 0.65mm, Lead Span 2.2mm, IPC High Density)
footprint X6SN+1_M (SOT23, 6-Leads, Body 2x1.3mm, Pitch 0.65mm, Lead Span 2.2mm, IPC Low Density)
pins: 1 LX, 2 GND (power), 3 OUT (in), 4 ~{SHDN} (in), 5 GND (power), 6 IN (power)

## MAX8640YEXT19+T
designator U?
Tiny 500mA, 4MHz/2MHz Synchronous Step-Down DC-DC Converter, 1.9V output, 2.2uH L1, 6-Pin SC70, -40°C to +85°C, Pb-Free, Tape and Reel; DatasheetVersion: Rev 4, Feb-2009; PackageVersion: revH, 2010; PackageReference: X6SN+1; PackageDescription: 6-Pin SL70 Package 2 x 1.3 mm Body ,0.65 mm Pitch, Pb-Free; Code_JEDEC: MO-203; ComponentLink1Description: Manufacturer URL; ComponentLink1URL: http://www.maxim-ic.com; ComponentLink2Description: Datasheet; ComponentLink2URL: http://datasheets.maxim-ic.com/en/ds/MAX8640Y-MAX8640Z.pdf; ComponentLink3Description: Package Specification; ComponentLink3URL: http://pdfserv.maxim-ic.com/package_dwgs/21-0077.PDF
footprint X6SN+1_N (SOT23, 6-Leads, Body 2x1.3mm, Pitch 0.65mm, Lead Span 2.2mm, IPC Medium Density)
footprint X6SN+1_L (SOT23, 6-Leads, Body 2x1.3mm, Pitch 0.65mm, Lead Span 2.2mm, IPC High Density)
footprint X6SN+1_M (SOT23, 6-Leads, Body 2x1.3mm, Pitch 0.65mm, Lead Span 2.2mm, IPC Low Density)
pins: 1 LX, 2 GND (power), 3 OUT (in), 4 ~{SHDN} (in), 5 GND (power), 6 IN (power)

## MAX8640YEXT19-T
designator U?
Tiny 500mA, 4MHz/2MHz Synchronous Step-Down DC-DC Converter, 1.9V output, 2.2uH L1, 6-Pin SC70, -40°C to +85°C, Tape and Reel; DatasheetVersion: Rev 4, Feb-2009; PackageVersion: revH, 2010; PackageReference: X6SN-1; PackageDescription: 6-Pin SL70 Package 2 x 1.3 mm Body ,0.65 mm Pitch; Code_JEDEC: MO-203; ComponentLink1Description: Manufacturer URL; ComponentLink1URL: http://www.maxim-ic.com; ComponentLink2Description: Datasheet; ComponentLink2URL: http://datasheets.maxim-ic.com/en/ds/MAX8640Y-MAX8640Z.pdf; ComponentLink3Description: Package Specification; ComponentLink3URL: http://pdfserv.maxim-ic.com/package_dwgs/21-0077.PDF
footprint X6SN-1_N (SOT23, 6-Leads, Body 2x1.3mm, Pitch 0.65mm, Lead Span 2.2mm, IPC Medium Density)
footprint X6SN-1_L (SOT23, 6-Leads, Body 2x1.3mm, Pitch 0.65mm, Lead Span 2.2mm, IPC High Density)
footprint X6SN-1_M (SOT23, 6-Leads, Body 2x1.3mm, Pitch 0.65mm, Lead Span 2.2mm, IPC Low Density)
pins: 1 LX, 2 GND (power), 3 OUT (in), 4 ~{SHDN} (in), 5 GND (power), 6 IN (power)

## MAX8640YEXT25+
designator U?
Tiny 500mA, 4MHz/2MHz Synchronous Step-Down DC-DC Converter, 2.5V output, 2.2uH L1, 6-Pin SC70, -40°C to +85°C, Pb-Free; DatasheetVersion: Rev 4, Feb-2009; PackageVersion: revH, 2010; PackageReference: X6SN+1; PackageDescription: 6-Pin SL70 Package 2 x 1.3 mm Body ,0.65 mm Pitch, Pb-Free; Code_JEDEC: MO-203; ComponentLink1Description: Manufacturer URL; ComponentLink1URL: http://www.maxim-ic.com; ComponentLink2Description: Datasheet; ComponentLink2URL: http://datasheets.maxim-ic.com/en/ds/MAX8640Y-MAX8640Z.pdf; ComponentLink3Description: Package Specification; ComponentLink3URL: http://pdfserv.maxim-ic.com/package_dwgs/21-0077.PDF
footprint X6SN+1_N (SOT23, 6-Leads, Body 2x1.3mm, Pitch 0.65mm, Lead Span 2.2mm, IPC Medium Density)
footprint X6SN+1_L (SOT23, 6-Leads, Body 2x1.3mm, Pitch 0.65mm, Lead Span 2.2mm, IPC High Density)
footprint X6SN+1_M (SOT23, 6-Leads, Body 2x1.3mm, Pitch 0.65mm, Lead Span 2.2mm, IPC Low Density)
pins: 1 LX, 2 GND (power), 3 OUT (in), 4 ~{SHDN} (in), 5 GND (power), 6 IN (power)

## MAX8640YEXT25+T
designator U?
Tiny 500mA, 4MHz/2MHz Synchronous Step-Down DC-DC Converter, 2.5V output, 2.2uH L1, 6-Pin SC70, -40°C to +85°C, Pb-Free, Tape and Reel; DatasheetVersion: Rev 4, Feb-2009; PackageVersion: revH, 2010; PackageReference: X6SN+1; PackageDescription: 6-Pin SL70 Package 2 x 1.3 mm Body ,0.65 mm Pitch, Pb-Free; Code_JEDEC: MO-203; ComponentLink1Description: Manufacturer URL; ComponentLink1URL: http://www.maxim-ic.com; ComponentLink2Description: Datasheet; ComponentLink2URL: http://datasheets.maxim-ic.com/en/ds/MAX8640Y-MAX8640Z.pdf; ComponentLink3Description: Package Specification; ComponentLink3URL: http://pdfserv.maxim-ic.com/package_dwgs/21-0077.PDF
footprint X6SN+1_N (SOT23, 6-Leads, Body 2x1.3mm, Pitch 0.65mm, Lead Span 2.2mm, IPC Medium Density)
footprint X6SN+1_L (SOT23, 6-Leads, Body 2x1.3mm, Pitch 0.65mm, Lead Span 2.2mm, IPC High Density)
footprint X6SN+1_M (SOT23, 6-Leads, Body 2x1.3mm, Pitch 0.65mm, Lead Span 2.2mm, IPC Low Density)
pins: 1 LX, 2 GND (power), 3 OUT (in), 4 ~{SHDN} (in), 5 GND (power), 6 IN (power)

## MAX8640ZELT12+
designator U?
Tiny 500mA, 4MHz/2MHz Synchronous Step-Down DC-DC Converter, 1.2V output, 1uH L1, 6-Pin DFN, -40°C to +85°C, Pb-Free; DatasheetVersion: Rev 4, Feb-2009; PackageVersion: revG, 2012; PackageReference: L611+1; PackageDescription: 6-Pin Micro Dual Flatpack No Lead, 1.5 x 1 x 0.8 mm Body, 0.5 mm Pitch, uDFN; ComponentLink1Description: Manufacturer URL; ComponentLink1URL: http://www.maxim-ic.com; ComponentLink2Description: Datasheet; ComponentLink2URL: http://datasheets.maxim-ic.com/en/ds/MAX8640Y-MAX8640Z.pdf; ComponentLink3Description: Package Specification; ComponentLink3URL: http://pdfserv.maxim-ic.com/package_dwgs/21-0147.PDF
footprint L611+1_N (SON, 6-Leads, Body 1.5x1mm, Pitch 0.5mm, IPC Medium Density)
footprint L611+1_L (SON, 6-Leads, Body 1.5x1mm, Pitch 0.5mm, IPC High Density)
footprint L611+1_M (SON, 6-Leads, Body 1.5x1mm, Pitch 0.5mm, IPC Low Density)
pins: 1 LX, 2 GND (power), 3 OUT (in), 4 ~{SHDN} (in), 5 GND (power), 6 IN (power)

## MAX8640ZELT12+T
designator U?
Tiny 500mA, 4MHz/2MHz Synchronous Step-Down DC-DC Converter, 1.2V output, 1uH L1, 6-Pin DFN, -40°C to +85°C, Pb-Free, Tape and Reel; DatasheetVersion: Rev 4, Feb-2009; PackageVersion: revG, 2012; PackageReference: L611+1; PackageDescription: 6-Pin Micro Dual Flatpack No Lead, 1.5 x 1 x 0.8 mm Body, 0.5 mm Pitch, uDFN; ComponentLink1Description: Manufacturer URL; ComponentLink1URL: http://www.maxim-ic.com; ComponentLink2Description: Datasheet; ComponentLink2URL: http://datasheets.maxim-ic.com/en/ds/MAX8640Y-MAX8640Z.pdf; ComponentLink3Description: Package Specification; ComponentLink3URL: http://pdfserv.maxim-ic.com/package_dwgs/21-0147.PDF
footprint L611+1_N (SON, 6-Leads, Body 1.5x1mm, Pitch 0.5mm, IPC Medium Density)
footprint L611+1_L (SON, 6-Leads, Body 1.5x1mm, Pitch 0.5mm, IPC High Density)
footprint L611+1_M (SON, 6-Leads, Body 1.5x1mm, Pitch 0.5mm, IPC Low Density)
pins: 1 LX, 2 GND (power), 3 OUT (in), 4 ~{SHDN} (in), 5 GND (power), 6 IN (power)

## MAX8640ZELT18+
designator U?
Tiny 500mA, 4MHz/2MHz Synchronous Step-Down DC-DC Converter, 1.8V output, 1uH L1, 6-Pin DFN, -40°C to +85°C, Pb-Free; DatasheetVersion: Rev 4, Feb-2009; PackageVersion: revG, 2012; PackageReference: L611+1; PackageDescription: 6-Pin Micro Dual Flatpack No Lead, 1.5 x 1 x 0.8 mm Body, 0.5 mm Pitch, uDFN; ComponentLink1Description: Manufacturer URL; ComponentLink1URL: http://www.maxim-ic.com; ComponentLink2Description: Datasheet; ComponentLink2URL: http://datasheets.maxim-ic.com/en/ds/MAX8640Y-MAX8640Z.pdf; ComponentLink3Description: Package Specification; ComponentLink3URL: http://pdfserv.maxim-ic.com/package_dwgs/21-0147.PDF
footprint L611+1_N (SON, 6-Leads, Body 1.5x1mm, Pitch 0.5mm, IPC Medium Density)
footprint L611+1_L (SON, 6-Leads, Body 1.5x1mm, Pitch 0.5mm, IPC High Density)
footprint L611+1_M (SON, 6-Leads, Body 1.5x1mm, Pitch 0.5mm, IPC Low Density)
pins: 1 LX, 2 GND (power), 3 OUT (in), 4 ~{SHDN} (in), 5 GND (power), 6 IN (power)

## MAX8640ZELT18+T
designator U?
Tiny 500mA, 4MHz/2MHz Synchronous Step-Down DC-DC Converter, 1.8V output, 1uH L1, 6-Pin DFN, -40°C to +85°C, Pb-Free, Tape and Reel; DatasheetVersion: Rev 4, Feb-2009; PackageVersion: revG, 2012; PackageReference: L611+1; PackageDescription: 6-Pin Micro Dual Flatpack No Lead, 1.5 x 1 x 0.8 mm Body, 0.5 mm Pitch, uDFN; ComponentLink1Description: Manufacturer URL; ComponentLink1URL: http://www.maxim-ic.com; ComponentLink2Description: Datasheet; ComponentLink2URL: http://datasheets.maxim-ic.com/en/ds/MAX8640Y-MAX8640Z.pdf; ComponentLink3Description: Package Specification; ComponentLink3URL: http://pdfserv.maxim-ic.com/package_dwgs/21-0147.PDF
footprint L611+1_N (SON, 6-Leads, Body 1.5x1mm, Pitch 0.5mm, IPC Medium Density)
footprint L611+1_L (SON, 6-Leads, Body 1.5x1mm, Pitch 0.5mm, IPC High Density)
footprint L611+1_M (SON, 6-Leads, Body 1.5x1mm, Pitch 0.5mm, IPC Low Density)
pins: 1 LX, 2 GND (power), 3 OUT (in), 4 ~{SHDN} (in), 5 GND (power), 6 IN (power)

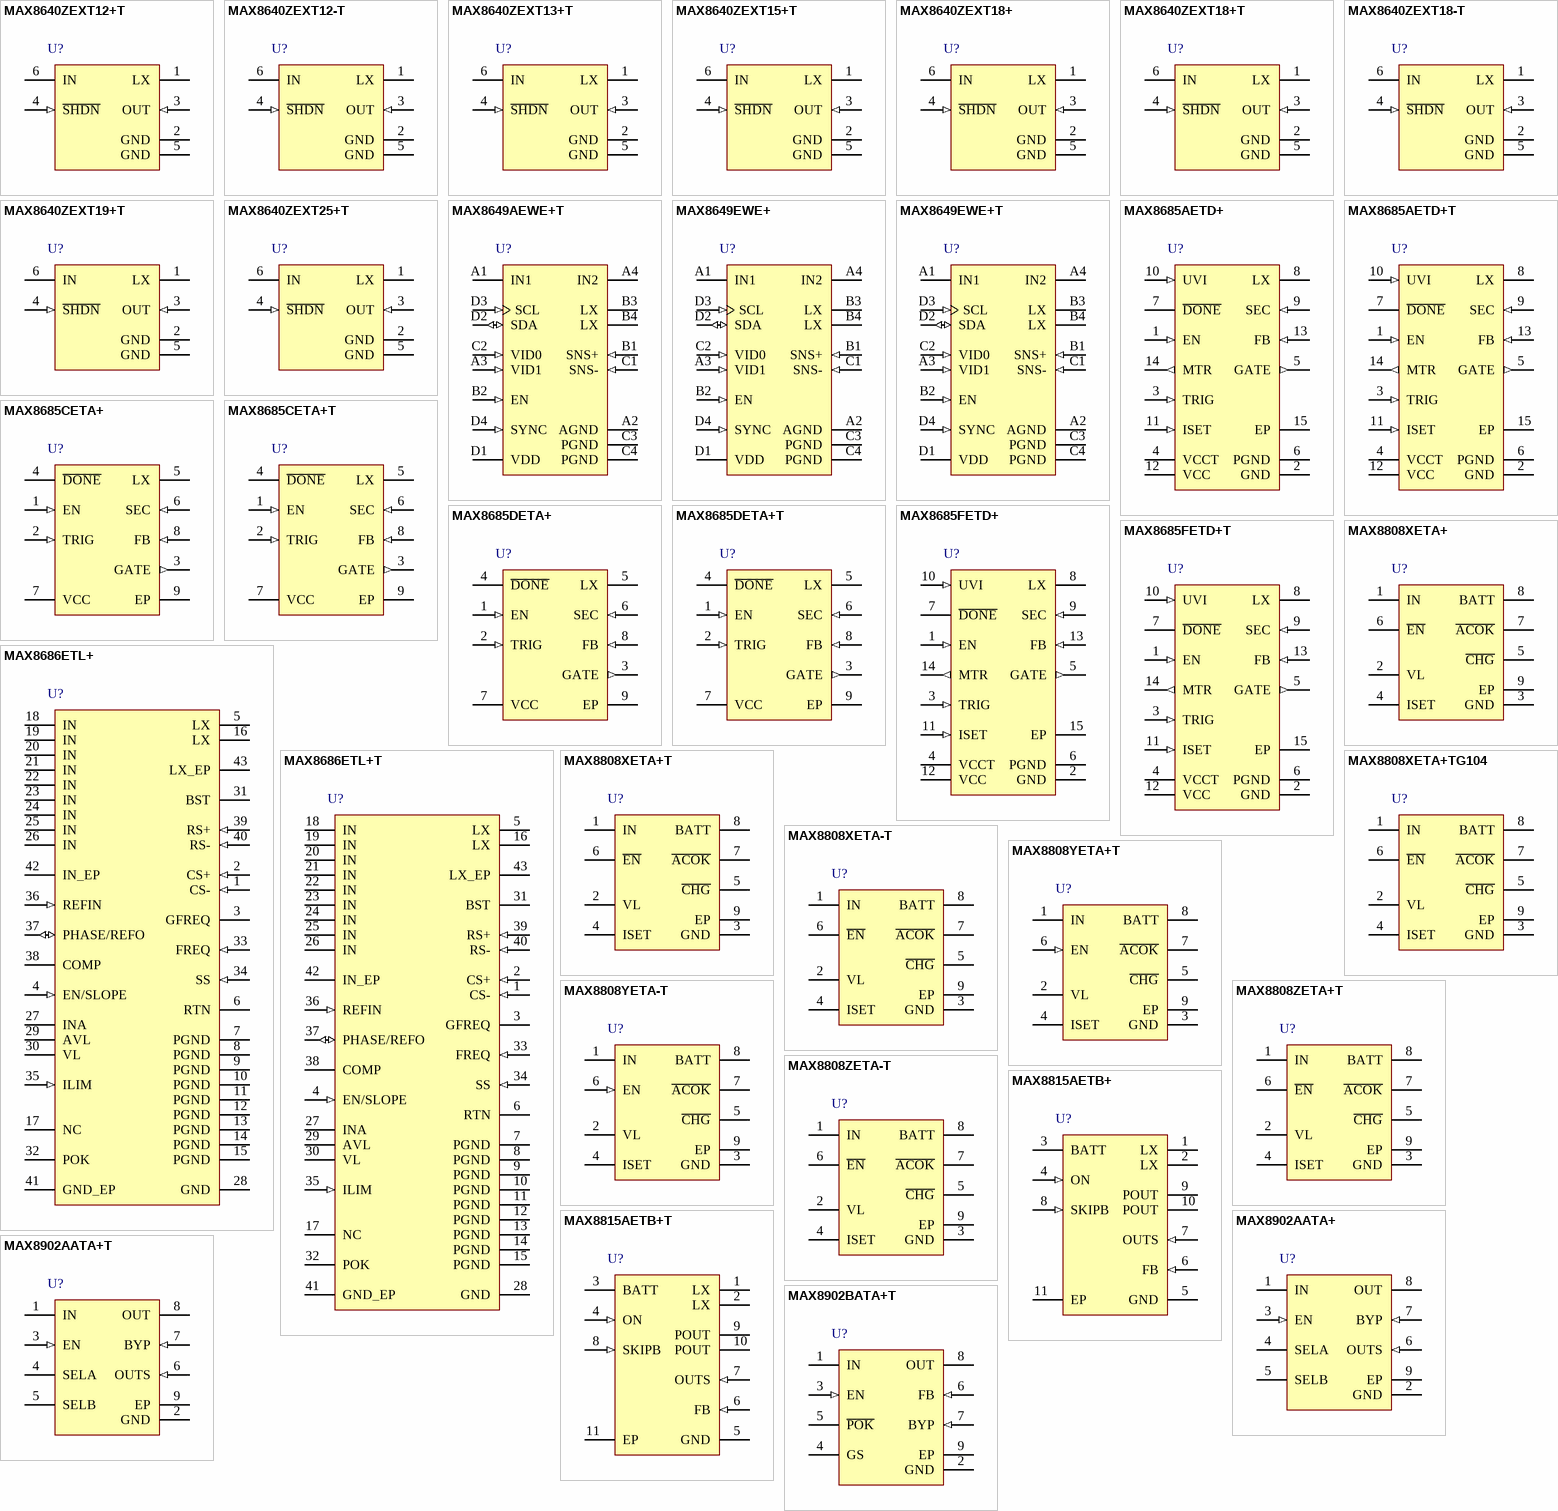
[diagram p14: symbols MAX8640ZEXT12+T to MAX8902BATA+T]

## MAX8640ZEXT12+T
designator U?
Tiny 500mA, 4MHz/2MHz Synchronous Step-Down DC-DC Converter, 1.2V output, 1uH L1, 6-Pin SC70, -40°C to +85°C, Pb-Free, Tape and Reel; DatasheetVersion: Rev 4, Feb-2009; PackageVersion: revH, 2010; PackageReference: X6SN+1; PackageDescription: 6-Pin SL70 Package 2 x 1.3 mm Body ,0.65 mm Pitch, Pb-Free; Code_JEDEC: MO-203; ComponentLink1Description: Manufacturer URL; ComponentLink1URL: http://www.maxim-ic.com; ComponentLink2Description: Datasheet; ComponentLink2URL: http://datasheets.maxim-ic.com/en/ds/MAX8640Y-MAX8640Z.pdf; ComponentLink3Description: Package Specification; ComponentLink3URL: http://pdfserv.maxim-ic.com/package_dwgs/21-0077.PDF
footprint X6SN+1_N (SOT23, 6-Leads, Body 2x1.3mm, Pitch 0.65mm, Lead Span 2.2mm, IPC Medium Density)
footprint X6SN+1_L (SOT23, 6-Leads, Body 2x1.3mm, Pitch 0.65mm, Lead Span 2.2mm, IPC High Density)
footprint X6SN+1_M (SOT23, 6-Leads, Body 2x1.3mm, Pitch 0.65mm, Lead Span 2.2mm, IPC Low Density)
pins: 1 LX, 2 GND (power), 3 OUT (in), 4 ~{SHDN} (in), 5 GND (power), 6 IN (power)

## MAX8640ZEXT12-T
designator U?
Tiny 500mA, 4MHz/2MHz Synchronous Step-Down DC-DC Converter, 1.2V output, 1uH L1, 6-Pin SC70, -40°C to +85°C, Tape and Reel; DatasheetVersion: Rev 4, Feb-2009; PackageVersion: revH, 2010; PackageReference: X6SN-1; PackageDescription: 6-Pin SL70 Package 2 x 1.3 mm Body ,0.65 mm Pitch; Code_JEDEC: MO-203; ComponentLink1Description: Manufacturer URL; ComponentLink1URL: http://www.maxim-ic.com; ComponentLink2Description: Datasheet; ComponentLink2URL: http://datasheets.maxim-ic.com/en/ds/MAX8640Y-MAX8640Z.pdf; ComponentLink3Description: Package Specification; ComponentLink3URL: http://pdfserv.maxim-ic.com/package_dwgs/21-0077.PDF
footprint X6SN-1_N (SOT23, 6-Leads, Body 2x1.3mm, Pitch 0.65mm, Lead Span 2.2mm, IPC Medium Density)
footprint X6SN-1_L (SOT23, 6-Leads, Body 2x1.3mm, Pitch 0.65mm, Lead Span 2.2mm, IPC High Density)
footprint X6SN-1_M (SOT23, 6-Leads, Body 2x1.3mm, Pitch 0.65mm, Lead Span 2.2mm, IPC Low Density)
pins: 1 LX, 2 GND (power), 3 OUT (in), 4 ~{SHDN} (in), 5 GND (power), 6 IN (power)

## MAX8640ZEXT13+T
designator U?
Tiny 500mA, 4MHz/2MHz Synchronous Step-Down DC-DC Converter, 1.3V output, 1uH L1, 6-Pin SC70, -40°C to +85°C, Pb-Free, Tape and Reel; DatasheetVersion: Rev 4, Feb-2009; PackageVersion: revH, 2010; PackageReference: X6SN+1; PackageDescription: 6-Pin SL70 Package 2 x 1.3 mm Body ,0.65 mm Pitch, Pb-Free; Code_JEDEC: MO-203; ComponentLink1Description: Manufacturer URL; ComponentLink1URL: http://www.maxim-ic.com; ComponentLink2Description: Datasheet; ComponentLink2URL: http://datasheets.maxim-ic.com/en/ds/MAX8640Y-MAX8640Z.pdf; ComponentLink3Description: Package Specification; ComponentLink3URL: http://pdfserv.maxim-ic.com/package_dwgs/21-0077.PDF
footprint X6SN+1_N (SOT23, 6-Leads, Body 2x1.3mm, Pitch 0.65mm, Lead Span 2.2mm, IPC Medium Density)
footprint X6SN+1_L (SOT23, 6-Leads, Body 2x1.3mm, Pitch 0.65mm, Lead Span 2.2mm, IPC High Density)
footprint X6SN+1_M (SOT23, 6-Leads, Body 2x1.3mm, Pitch 0.65mm, Lead Span 2.2mm, IPC Low Density)
pins: 1 LX, 2 GND (power), 3 OUT (in), 4 ~{SHDN} (in), 5 GND (power), 6 IN (power)

## MAX8640ZEXT15+T
designator U?
Tiny 500mA, 4MHz/2MHz Synchronous Step-Down DC-DC Converter, 1.5V output, 1uH L1, 6-Pin SC70, -40°C to +85°C, Pb-Free, Tape and Reel; DatasheetVersion: Rev 4, Feb-2009; PackageVersion: revH, 2010; PackageReference: X6SN+1; PackageDescription: 6-Pin SL70 Package 2 x 1.3 mm Body ,0.65 mm Pitch, Pb-Free; Code_JEDEC: MO-203; ComponentLink1Description: Manufacturer URL; ComponentLink1URL: http://www.maxim-ic.com; ComponentLink2Description: Datasheet; ComponentLink2URL: http://datasheets.maxim-ic.com/en/ds/MAX8640Y-MAX8640Z.pdf; ComponentLink3Description: Package Specification; ComponentLink3URL: http://pdfserv.maxim-ic.com/package_dwgs/21-0077.PDF
footprint X6SN+1_N (SOT23, 6-Leads, Body 2x1.3mm, Pitch 0.65mm, Lead Span 2.2mm, IPC Medium Density)
footprint X6SN+1_L (SOT23, 6-Leads, Body 2x1.3mm, Pitch 0.65mm, Lead Span 2.2mm, IPC High Density)
footprint X6SN+1_M (SOT23, 6-Leads, Body 2x1.3mm, Pitch 0.65mm, Lead Span 2.2mm, IPC Low Density)
pins: 1 LX, 2 GND (power), 3 OUT (in), 4 ~{SHDN} (in), 5 GND (power), 6 IN (power)

## MAX8640ZEXT18+
designator U?
Tiny 500mA, 4MHz/2MHz Synchronous Step-Down DC-DC Converter, 1.8V output, 1uH L1, 6-Pin SC70, -40°C to +85°C, Pb-Free; DatasheetVersion: Rev 4, Feb-2009; PackageVersion: revH, 2010; PackageReference: X6SN+1; PackageDescription: 6-Pin SL70 Package 2 x 1.3 mm Body ,0.65 mm Pitch, Pb-Free; Code_JEDEC: MO-203; ComponentLink1Description: Manufacturer URL; ComponentLink1URL: http://www.maxim-ic.com; ComponentLink2Description: Datasheet; ComponentLink2URL: http://datasheets.maxim-ic.com/en/ds/MAX8640Y-MAX8640Z.pdf; ComponentLink3Description: Package Specification; ComponentLink3URL: http://pdfserv.maxim-ic.com/package_dwgs/21-0077.PDF
footprint X6SN+1_N (SOT23, 6-Leads, Body 2x1.3mm, Pitch 0.65mm, Lead Span 2.2mm, IPC Medium Density)
footprint X6SN+1_L (SOT23, 6-Leads, Body 2x1.3mm, Pitch 0.65mm, Lead Span 2.2mm, IPC High Density)
footprint X6SN+1_M (SOT23, 6-Leads, Body 2x1.3mm, Pitch 0.65mm, Lead Span 2.2mm, IPC Low Density)
pins: 1 LX, 2 GND (power), 3 OUT (in), 4 ~{SHDN} (in), 5 GND (power), 6 IN (power)

## MAX8640ZEXT18+T
designator U?
Tiny 500mA, 4MHz/2MHz Synchronous Step-Down DC-DC Converter, 1.8V output, 1uH L1, 6-Pin SC70, -40°C to +85°C, Pb-Free, Tape and Reel; DatasheetVersion: Rev 4, Feb-2009; PackageVersion: revH, 2010; PackageReference: X6SN+1; PackageDescription: 6-Pin SL70 Package 2 x 1.3 mm Body ,0.65 mm Pitch, Pb-Free; Code_JEDEC: MO-203; ComponentLink1Description: Manufacturer URL; ComponentLink1URL: http://www.maxim-ic.com; ComponentLink2Description: Datasheet; ComponentLink2URL: http://datasheets.maxim-ic.com/en/ds/MAX8640Y-MAX8640Z.pdf; ComponentLink3Description: Package Specification; ComponentLink3URL: http://pdfserv.maxim-ic.com/package_dwgs/21-0077.PDF
footprint X6SN+1_N (SOT23, 6-Leads, Body 2x1.3mm, Pitch 0.65mm, Lead Span 2.2mm, IPC Medium Density)
footprint X6SN+1_L (SOT23, 6-Leads, Body 2x1.3mm, Pitch 0.65mm, Lead Span 2.2mm, IPC High Density)
footprint X6SN+1_M (SOT23, 6-Leads, Body 2x1.3mm, Pitch 0.65mm, Lead Span 2.2mm, IPC Low Density)
pins: 1 LX, 2 GND (power), 3 OUT (in), 4 ~{SHDN} (in), 5 GND (power), 6 IN (power)

## MAX8640ZEXT18-T
designator U?
Tiny 500mA, 4MHz/2MHz Synchronous Step-Down DC-DC Converter, 1.8V output, 1uH L1, 6-Pin SC70, -40°C to +85°C, Tape and Reel; DatasheetVersion: Rev 4, Feb-2009; PackageVersion: revH, 2010; PackageReference: X6SN-1; PackageDescription: 6-Pin SL70 Package 2 x 1.3 mm Body ,0.65 mm Pitch; Code_JEDEC: MO-203; ComponentLink1Description: Manufacturer URL; ComponentLink1URL: http://www.maxim-ic.com; ComponentLink2Description: Datasheet; ComponentLink2URL: http://datasheets.maxim-ic.com/en/ds/MAX8640Y-MAX8640Z.pdf; ComponentLink3Description: Package Specification; ComponentLink3URL: http://pdfserv.maxim-ic.com/package_dwgs/21-0077.PDF
footprint X6SN-1_N (SOT23, 6-Leads, Body 2x1.3mm, Pitch 0.65mm, Lead Span 2.2mm, IPC Medium Density)
footprint X6SN-1_L (SOT23, 6-Leads, Body 2x1.3mm, Pitch 0.65mm, Lead Span 2.2mm, IPC High Density)
footprint X6SN-1_M (SOT23, 6-Leads, Body 2x1.3mm, Pitch 0.65mm, Lead Span 2.2mm, IPC Low Density)
pins: 1 LX, 2 GND (power), 3 OUT (in), 4 ~{SHDN} (in), 5 GND (power), 6 IN (power)

## MAX8640ZEXT19+T
designator U?
Tiny 500mA, 4MHz/2MHz Synchronous Step-Down DC-DC Converter, 1.9V output, 1uH L1, 6-Pin SC70, -40°C to +85°C, Pb-Free, Tape and Reel; DatasheetVersion: Rev 4, Feb-2009; PackageVersion: revH, 2010; PackageReference: X6SN-1; PackageDescription: 6-Pin SL70 Package 2 x 1.3 mm Body ,0.65 mm Pitch; Code_JEDEC: MO-203; ComponentLink1Description: Manufacturer URL; ComponentLink1URL: http://www.maxim-ic.com; ComponentLink2Description: Datasheet; ComponentLink2URL: http://datasheets.maxim-ic.com/en/ds/MAX8640Y-MAX8640Z.pdf; ComponentLink3Description: Package Specification; ComponentLink3URL: http://pdfserv.maxim-ic.com/package_dwgs/21-0077.PDF
footprint X6SN-1_N (SOT23, 6-Leads, Body 2x1.3mm, Pitch 0.65mm, Lead Span 2.2mm, IPC Medium Density)
footprint X6SN-1_L (SOT23, 6-Leads, Body 2x1.3mm, Pitch 0.65mm, Lead Span 2.2mm, IPC High Density)
footprint X6SN-1_M (SOT23, 6-Leads, Body 2x1.3mm, Pitch 0.65mm, Lead Span 2.2mm, IPC Low Density)
pins: 1 LX, 2 GND (power), 3 OUT (in), 4 ~{SHDN} (in), 5 GND (power), 6 IN (power)

## MAX8640ZEXT25+T
designator U?
Tiny 500mA, 4MHz/2MHz Synchronous Step-Down DC-DC Converter, 2.5V output, 1uH L1, 6-Pin SC70, -40°C to +85°C, Pb-Free, Tape and Reel; DatasheetVersion: Rev 4, Feb-2009; PackageVersion: revH, 2010; PackageReference: X6SN-1; PackageDescription: 6-Pin SL70 Package 2 x 1.3 mm Body ,0.65 mm Pitch; Code_JEDEC: MO-203; ComponentLink1Description: Manufacturer URL; ComponentLink1URL: http://www.maxim-ic.com; ComponentLink2Description: Datasheet; ComponentLink2URL: http://datasheets.maxim-ic.com/en/ds/MAX8640Y-MAX8640Z.pdf; ComponentLink3Description: Package Specification; ComponentLink3URL: http://pdfserv.maxim-ic.com/package_dwgs/21-0077.PDF
footprint X6SN-1_N (SOT23, 6-Leads, Body 2x1.3mm, Pitch 0.65mm, Lead Span 2.2mm, IPC Medium Density)
footprint X6SN-1_L (SOT23, 6-Leads, Body 2x1.3mm, Pitch 0.65mm, Lead Span 2.2mm, IPC High Density)
footprint X6SN-1_M (SOT23, 6-Leads, Body 2x1.3mm, Pitch 0.65mm, Lead Span 2.2mm, IPC Low Density)
pins: 1 LX, 2 GND (power), 3 OUT (in), 4 ~{SHDN} (in), 5 GND (power), 6 IN (power)

## MAX8649AEWE+T
designator U?
1.8A Step-Down Regulator with Remote Sense, I2C Address (0xC4/0xC5), 16-Pin WLP, -40°C to +85°C, Pb-Free, Tape and Reel; DatasheetVersion: Rev 4, Jun-2011; PackageVersion: revF, 2011; PackageReference: W162B2+1; PackageDescription: 16-Ball Wafer-Level Package (WLP) 4x4 Bump, Full Array, 0.5 mm Pitch, Pb-Free; ComponentLink1Description: Manufacturer URL; ComponentLink1URL: http://www.maxim-ic.com; ComponentLink2Description: Datasheet; ComponentLink2URL: http://datasheets.maxim-ic.com/en/ds/MAX8649-MAX8649A.pdf; ComponentLink3Description: Package Specification; ComponentLink3URL: http://pdfserv.maxim-ic.com/package_dwgs/21-0200.PDF
footprint W162B2+1 (BGA, 16-Leads, Body 2.05x2.05mm, Pitch 0.5mm)
pins: A1 IN1 (power), A2 AGND (power), A3 VID1 (in), A4 IN2 (power), B1 SNS+ (in), B2 EN (in), B3 LX, B4 LX, C1 SNS- (in), C2 VID0 (in), C3 PGND (power), C4 PGND (power), D1 VDD (power), D2 SDA (io), D3 SCL (in), D4 SYNC (in)